# EAGLE library part TI_LM2825 (library BLE_sensor_pack_parts)
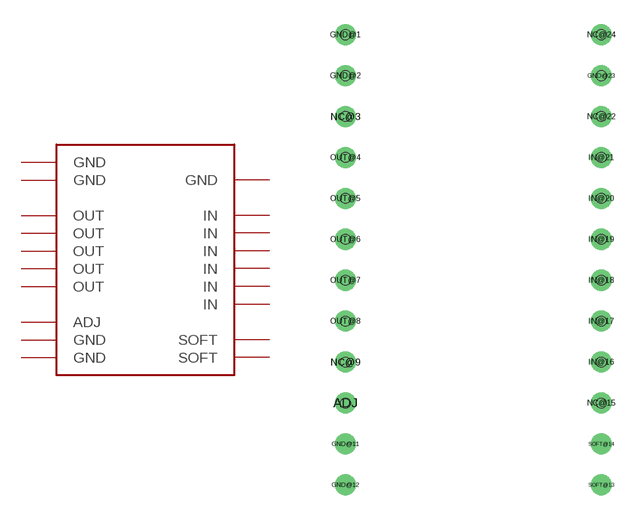
[diagram p2: symbol with the pads of TI_LM2825_HEADERS; footprint TI_LM2825_HEADERS]

Designator prefix -

## TI_LM2825  [TI_LM2825_HEADERS]
ADJ  ADJ  pas
GND@1  GND  pwr
GND@2  GND  pwr
GND@11  GND  pwr
GND@12  GND  pwr
GND@23  GND  pwr
IN@16  IN  in
IN@17  IN  in
IN@18  IN  in
IN@19  IN  in
IN@20  IN  in
IN@21  IN  in
OUT@4  OUT  out
OUT@5  OUT  out
OUT@6  OUT  out
OUT@7  OUT  out
OUT@8  OUT  out
SOFT@13  SOFT  pas
SOFT@14  SOFT  pas

## Footprint TI_LM2825_HEADERS (pad centres in mm)
drill 0.8: ADJ -7.938,-8.89; GND@1 -7.938,13.97; GND@2 -7.938,11.43; GND@11 -7.938,-11.43; GND@12 -7.938,-13.97; GND@23 7.938,11.43; IN@16 7.938,-6.35; IN@17 7.938,-3.81; IN@18 7.938,-1.27; IN@19 7.938,1.27; IN@20 7.938,3.81; IN@21 7.938,6.35; NC@3 -7.938,8.89; NC@9 -7.938,-6.35; NC@15 7.938,-8.89; NC@22 7.938,8.89; NC@24 7.938,13.97; OUT@4 -7.938,6.35; OUT@5 -7.938,3.81; OUT@6 -7.938,1.27; OUT@7 -7.938,-1.27; OUT@8 -7.938,-3.81; SOFT@13 7.938,-13.97; SOFT@14 7.938,-11.43
hole 0.6 at -7.938,13.97
hole 0.6 at -7.938,11.43
hole 0.6 at -7.938,8.89
hole 0.6 at -7.938,6.35
hole 0.6 at -7.938,3.81
hole 0.6 at -7.938,1.27
hole 0.6 at -7.938,-1.27
hole 0.6 at -7.938,-3.81
hole 0.6 at -7.938,-6.35
hole 0.6 at -7.938,-8.89
hole 0.6 at 7.938,13.97
hole 0.6 at 7.938,11.43
hole 0.6 at 7.938,8.89
hole 0.6 at 7.938,6.35
hole 0.6 at 7.938,3.81
hole 0.6 at 7.938,1.27
hole 0.6 at 7.938,-1.27
hole 0.6 at 7.938,-3.81
hole 0.6 at 7.938,-6.35
hole 0.6 at 7.938,-8.89